# Altium footprint library MURATA_Footprints.PcbLib: 1 footprints
Each footprint in its own frame and in the unit in brackets; x right, y up, seen from the top. Pads: shape width x height; smd on the part's side, far side on the other; paste and mask are expansions set on the pad; w line width, h text height; cw(c..) or ccw(c..) is an arc to the next point about the centre after c.
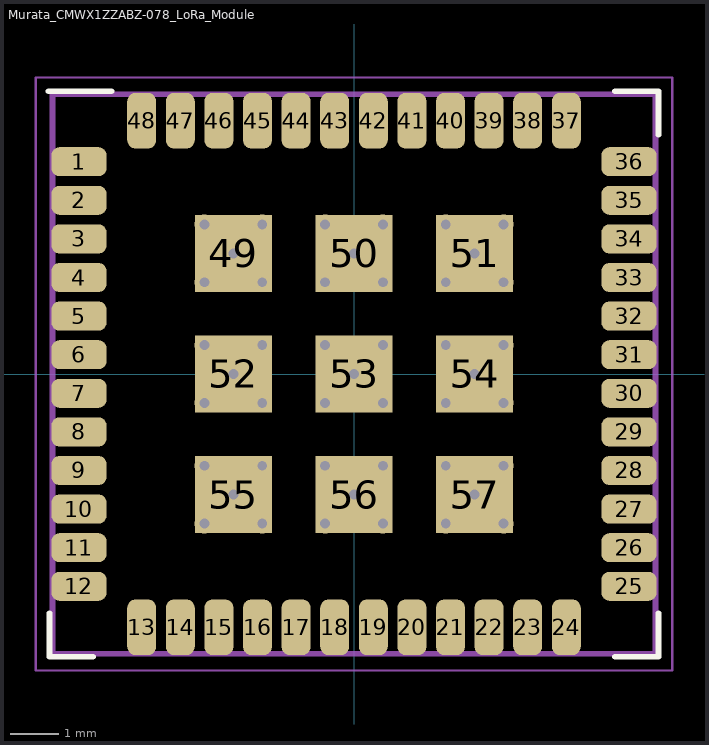
[diagram p0: the footprint, top view; thin cyan lines are the x and y axes]

## Murata_CMWX1ZZABZ-078_LoRa_Module [mm] "Murata LoRa module"
height 1.76
pads (57):
  rrect55% 1.15x0.6 smd: 1(-5.7,4.4) 2(-5.7,3.6) 3(-5.7,2.8) 4(-5.7,2) 5(-5.7,1.2) 6(-5.7,0.4) 7(-5.7,-0.4) 8(-5.7,-1.2) 9(-5.7,-2) 10(-5.7,-2.8) 11(-5.7,-3.6) 12(-5.7,-4.4) 25(5.7,-4.4) 26(5.7,-3.6) 27(5.7,-2.8) 28(5.7,-2) 29(5.7,-1.2) 30(5.7,-0.4) 31(5.7,0.4) 32(5.7,1.2) 33(5.7,2) 34(5.7,2.8) 35(5.7,3.6) 36(5.7,4.4)
  rrect55% 0.6x1.15 smd: 13(-4.4,-5.25) 14(-3.6,-5.25) 15(-2.8,-5.25) 16(-2,-5.25) 17(-1.2,-5.25) 18(-0.4,-5.25) 19(0.4,-5.25) 20(1.2,-5.25) 21(2,-5.25) 22(2.8,-5.25) 23(3.6,-5.25) 24(4.4,-5.25) 37(4.4,5.25) 38(3.6,5.25) 39(2.8,5.25) 40(2,5.25) 41(1.2,5.25) 42(0.4,5.25) 43(-0.4,5.25) 44(-1.2,5.25) 45(-2,5.25) 46(-2.8,5.25) 47(-3.6,5.25) 48(-4.4,5.25)
  rect 1.6x1.6 smd: 49(-2.5,2.5) 50(0,2.5) 51(2.5,2.5) 52(-2.5,0) 53(0,0) 54(2.5,0) 55(-2.5,-2.5) 56(0,-2.5) 57(2.5,-2.5)
via -3.1,0.6 diameter 0.406 hole 0.203
via -1.9,0.6 diameter 0.406 hole 0.203
via -3.1,-0.6 diameter 0.406 hole 0.203
via -1.9,-0.6 diameter 0.406 hole 0.203
via -2.5,0 diameter 0.406 hole 0.203
via -0.6,-0.6 diameter 0.406 hole 0.203
via 0.6,-0.6 diameter 0.406 hole 0.203
via -0.6,0.6 diameter 0.406 hole 0.203
via 0.6,0.6 diameter 0.406 hole 0.203
via 0,0 diameter 0.406 hole 0.203
via 2.5,0 diameter 0.406 hole 0.203
via 1.9,0.6 diameter 0.406 hole 0.203
via 1.9,-0.6 diameter 0.406 hole 0.203
via 3.1,-0.6 diameter 0.406 hole 0.203
via 3.1,0.6 diameter 0.406 hole 0.203
via 2.5,2.5 diameter 0.406 hole 0.203
via 1.9,1.9 diameter 0.406 hole 0.203
via 1.9,3.1 diameter 0.406 hole 0.203
via 3.1,3.1 diameter 0.406 hole 0.203
via 3.1,1.9 diameter 0.406 hole 0.203
via 0,2.5 diameter 0.406 hole 0.203
via -0.6,1.9 diameter 0.406 hole 0.203
via -0.6,3.1 diameter 0.406 hole 0.203
via 0.6,3.1 diameter 0.406 hole 0.203
via 0.6,1.9 diameter 0.406 hole 0.203
via -3.1,1.9 diameter 0.406 hole 0.203
via -3.1,3.1 diameter 0.406 hole 0.203
via -1.9,3.1 diameter 0.406 hole 0.203
via -1.9,1.9 diameter 0.406 hole 0.203
via -2.5,2.5 diameter 0.406 hole 0.203
via -3.1,-1.9 diameter 0.406 hole 0.203
via -1.9,-1.9 diameter 0.406 hole 0.203
via -1.9,-3.1 diameter 0.406 hole 0.203
via -3.1,-3.1 diameter 0.406 hole 0.203
via -2.5,-2.5 diameter 0.406 hole 0.203
via -0.6,-3.1 diameter 0.406 hole 0.203
via 0.6,-3.1 diameter 0.406 hole 0.203
via -0.6,-1.9 diameter 0.406 hole 0.203
via 0.6,-1.9 diameter 0.406 hole 0.203
via 0,-2.5 diameter 0.406 hole 0.203
via 1.9,-1.9 diameter 0.406 hole 0.203
via 3.1,-1.9 diameter 0.406 hole 0.203
via 1.9,-3.1 diameter 0.406 hole 0.203
via 3.1,-3.1 diameter 0.406 hole 0.203
via 2.5,-2.5 diameter 0.406 hole 0.203
Top Overlay:
  lines w0.12: -6.335,5.86 -5.025,5.86 ; -6.31,-4.96 -6.31,-5.86 -5.41,-5.86 ; 5.41,-5.86 6.31,-5.86 6.31,-4.96 ; 5.41,5.86 6.31,5.86 6.31,4.96
Mechanical 11:
  lines w0.12: -6.25,-5.8 6.25,-5.8 6.25,5.8 -6.25,5.8 -6.25,-5.8
Mechanical 12:
  drawing of 233 lines, arcs and shapes, not listed
Mechanical 15:
  circle w0.05: c0,0 r0.25
  lines w0.05: -0.35,0 0.35,0 ; 0,-0.35 0,0.35 ; -6.595,-6.145 -6.595,6.145 6.595,6.145 6.595,-6.145 -6.595,-6.145
Mechanical 16:
  text "'.Designator'" at 0,0 h1.2
3D body "User Library-LORA.STEP": height 1.73, standoff -0.03, extent -6.25,-5.775 6.25,5.825